# Altium footprint library Cowork_Pcb_Lib.PcbLib: 3 footprints
Each footprint in its own frame and in the unit in brackets; x right, y up, seen from the top. Pads: shape width x height; smd on the part's side, far side on the other; paste and mask are expansions set on the pad; w line width, h text height; cw(c..) or ccw(c..) is an arc to the next point about the centre after c.
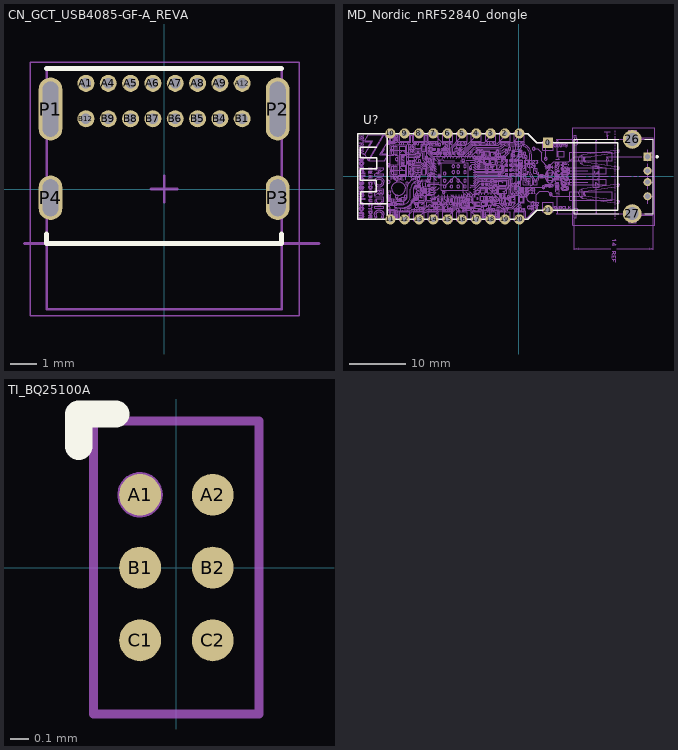
[diagram p0: the footprints below, top view; thin cyan lines are the x and y axes]

## CN_GCT_USB4085-GF-A_REVA [mm] "USB 2.0 Type C Receptacle Dip Type, PCB Top Mount"
height 3.46
pads (20):
  round 0.65 hole 0.4: A1(-2.975,4.025) A4(-2.125,4.025) A5(-1.275,4.025) A6(-0.425,4.025) A7(0.425,4.025) A8(1.275,4.025) A9(2.125,4.025) A12(2.975,4.025) B1(2.975,2.675) B4(2.125,2.675) B5(1.275,2.675) B6(0.425,2.675) B7(-0.425,2.675) B8(-1.275,2.675) B9(-2.125,2.675) B12(-2.975,2.675)
  oval 0.9x2.4 hole 0.6 slot 2.1 at 90 deg: P1(-4.325,3.045) P2(4.325,3.045)
  oval 0.9x1.7 hole 0.6 slot 1.4 at 90 deg: P3(4.325,-0.335) P4(-4.325,-0.335)
Top Overlay:
  lines w0.2: -4.475,-1.725 -4.475,-2.075 4.475,-2.075 4.475,-1.725 ; -4.475,4.585 4.475,4.585
Mechanical 13:
  lines w0.1: -4.475,-4.585 4.475,-4.585 4.475,4.585 -4.475,4.585 -4.475,-4.585
Mechanical 15:
  lines w0.05: -5.1,-4.825 5.15,-4.825 5.15,4.825 -5.1,4.825 -5.1,-4.825
  lines w0.1: -0.5,0 0.5,0 ; 0,-0.5 0,0.5
Mechanical 16:
  lines w0.127: -5.3,-2.075 5.9,-2.075
  text ">PCB Edge" at 5.7,-2.075 h1.57
3D body "USB4085-03-A_revA.STEP": height 3.46, standoff -2.1, extent -4.515,-4.564 4.515,4.606

## MD_Nordic_nRF52840_dongle [mm] "Nordic_nRF52840_dongle"
pads (28):
  rect 1.8x1.8 hole 0.92: 0(5.15,5.95)
  round 1.8 hole 0.9: 1(0.07,7.612) 2(-2.48,7.612) 3(-5.005,7.612) 4(-7.555,7.612) 5(-10.08,7.612) 6(-12.63,7.612) 7(-15.18,7.612) 8(-17.705,7.612) 9(-20.255,7.612) 10(-22.78,7.612) 11(-22.78,-7.612) 12(-20.255,-7.612) 13(-17.705,-7.612) 14(-15.18,-7.612) 15(-12.63,-7.612) 16(-10.08,-7.612) 17(-7.555,-7.612) 18(-5.005,-7.612) 19(-2.48,-7.612) 20(0.07,-7.612) 21(5.145,-5.963)
  rect 1.428x1.428 hole 0.92: 22(22.781,3.483)
  round 1.428 hole 0.92: 23(22.781,0.982) 24(22.781,-1.018) 25(22.781,-3.518)
  round 3.316 hole 2.3: 26(20.071,6.552) 27(20.071,-6.588)
Top Overlay:
  circle w0.3: c24.48,3.483 r0.15
  lines w0.127: 17.701,-6.582 9.791,-6.582 9.791,6.548 17.701,6.548 ; 22.281,-6.582 23.791,-6.582 23.791,6.548 22.281,6.548
  lines w0.254: -25.155,5.188 -28.105,5.188 -28.105,3.337 -28.13,3.313 -25.18,3.313 -25.18,1.363 -25.155,1.338 -28.055,1.338 -28.08,1.363 -28.08,-0.612 -28.105,-0.637 -25.255,-0.637 -25.255,-2.688 -28.031,-2.688 -28.043,-2.7 -28.043,-4.862 -23.349,-4.862 ; -23.349,-7.612 -23.349,7.512 ; -28.505,-7.612 1.595,-7.612 3.195,-6.013 17.533,-6.013 17.533,5.988 3.141,5.988 1.541,7.588 -28.505,7.588 -28.505,-7.612
  text "U?" at -27.58,9.213 h1.52
Mechanical 13:
  drawing of 10111 lines, arcs and shapes, not listed
  text "PCB EDGE" at 7.525,-2.874 h1.27
Mechanical 15:
  lines w0.05: 9.541,-8.638 24.041,-8.638 24.041,8.602 9.541,8.602 9.541,-8.638
3D body "400250.step": height 7.04, standoff 2.47, extent -28.38,-7.583 17.659,7.657
3D body "292303-1--3DModel-STEP-56544.STEP": height 7.87, standoff -3.61, extent 9.737,-8.012 23.737,7.987
3D body "zl201-1_p2-54_l2-54_w2-54_h8-89.stp": height 8.89, standoff -3.05, extent -24.05,-8.882 -21.51,-6.342
3D body "zl201-1_p2-54_l2-54_w2-54_h8-89.stp": height 8.89, standoff -3.05, extent -21.65,-8.86 -19.11,-6.32
3D body "zl201-1_p2-54_l2-54_w2-54_h8-89.stp": height 8.89, standoff -3.05, extent -19.075,-8.857 -16.535,-6.317
3D body "zl201-1_p2-54_l2-54_w2-54_h8-89.stp": height 8.89, standoff -3.05, extent -16.475,-8.857 -13.935,-6.317
3D body "zl201-1_p2-54_l2-54_w2-54_h8-89.stp": height 8.89, standoff -3.05, extent -13.95,-8.857 -11.41,-6.317
3D body "zl201-1_p2-54_l2-54_w2-54_h8-89.stp": height 8.89, standoff -3.05, extent -11.4,-8.882 -8.86,-6.342
3D body "zl201-1_p2-54_l2-54_w2-54_h8-89.stp": height 8.89, standoff -3.05, extent -8.775,-8.857 -6.235,-6.317
3D body "zl201-1_p2-54_l2-54_w2-54_h8-89.stp": height 8.89, standoff -3.05, extent -6.35,-8.857 -3.81,-6.317
3D body "zl201-1_p2-54_l2-54_w2-54_h8-89.stp": height 8.89, standoff -3.05, extent -3.7,-8.832 -1.16,-6.292
3D body "zl201-1_p2-54_l2-54_w2-54_h8-89.stp": height 8.89, standoff -3.05, extent -1.275,-8.857 1.265,-6.317
3D body "zl201-1_p2-54_l2-54_w2-54_h8-89.stp": height 8.89, standoff -3.05, extent 3.925,-7.232 6.465,-4.692
3D body "zl201-1_p2-54_l2-54_w2-54_h8-89.stp": height 8.89, standoff -3.05, extent -24.125,6.343 -21.585,8.883
3D body "zl201-1_p2-54_l2-54_w2-54_h8-89.stp": height 8.89, standoff -3.05, extent -21.575,6.368 -19.035,8.908
3D body "zl201-1_p2-54_l2-54_w2-54_h8-89.stp": height 8.89, standoff -3.05, extent -19,6.368 -16.46,8.908
3D body "zl201-1_p2-54_l2-54_w2-54_h8-89.stp": height 8.89, standoff -3.05, extent -16.45,6.393 -13.91,8.933
3D body "zl201-1_p2-54_l2-54_w2-54_h8-89.stp": height 8.89, standoff -3.05, extent -13.9,6.393 -11.36,8.933
3D body "zl201-1_p2-54_l2-54_w2-54_h8-89.stp": height 8.89, standoff -3.05, extent -11.325,6.393 -8.785,8.933
3D body "zl201-1_p2-54_l2-54_w2-54_h8-89.stp": height 8.89, standoff -3.05, extent -8.825,6.418 -6.285,8.958
3D body "zl201-1_p2-54_l2-54_w2-54_h8-89.stp": height 8.89, standoff -3.05, extent -6.275,6.393 -3.735,8.933
3D body "zl201-1_p2-54_l2-54_w2-54_h8-89.stp": height 8.89, standoff -3.05, extent -3.725,6.393 -1.185,8.933
3D body "zl201-1_p2-54_l2-54_w2-54_h8-89.stp": height 8.89, standoff -3.05, extent -1.15,6.393 1.39,8.933
3D body "zl201-1_p2-54_l2-54_w2-54_h8-89.stp": height 8.89, standoff -3.05, extent 3.875,4.693 6.415,7.233

## TI_BQ25100A [mm]
pads (6):
  round 0.23 smd paste-0.13 mask+0.038: A1(-0.2,0.4) A2(0.2,0.4) B1(-0.2,0) B2(0.2,0) C1(-0.2,-0.4) C2(0.2,-0.4)
Top Overlay:
  lines w0.15: -0.537,0.666 -0.537,0.844 -0.333,0.844
Top Paste:
  circle w0.05: c-0.125,-0.325 r0.025
  circle w0.05: c-0.275,-0.475 r0.025
  circle w0.05: c-0.275,-0.325 r0.025
  circle w0.05: c-0.125,-0.475 r0.025
  circle w0.05: c0.275,-0.475 r0.025
  circle w0.05: c0.125,-0.325 r0.025
  circle w0.05: c0.125,-0.475 r0.025
  circle w0.05: c0.275,-0.325 r0.025
  circle w0.05: c-0.125,0.075 r0.025
  circle w0.05: c-0.275,-0.075 r0.025
  circle w0.05: c-0.275,0.075 r0.025
  circle w0.05: c-0.125,-0.075 r0.025
  circle w0.05: c0.275,-0.075 r0.025
  circle w0.05: c0.125,0.075 r0.025
  circle w0.05: c0.125,-0.075 r0.025
  circle w0.05: c0.275,0.075 r0.025
  circle w0.05: c-0.125,0.475 r0.025
  circle w0.05: c-0.275,0.325 r0.025
  circle w0.05: c-0.275,0.475 r0.025
  circle w0.05: c-0.125,0.325 r0.025
  circle w0.05: c0.275,0.325 r0.025
  circle w0.05: c0.125,0.475 r0.025
  circle w0.05: c0.125,0.325 r0.025
  circle w0.05: c0.275,0.475 r0.025
  rectangle: -0.275,-0.525 -0.125,-0.475
  region: -0.325,-0.325 -0.325,-0.475 -0.275,-0.475 -0.275,-0.325
  region: -0.125,-0.275 -0.275,-0.275 -0.275,-0.325 -0.125,-0.325
  region: -0.075,-0.475 -0.075,-0.325 -0.125,-0.325 -0.125,-0.475
  region: -0.275,-0.325 -0.275,-0.475 -0.125,-0.475 -0.125,-0.325
  region: 0.125,-0.325 0.125,-0.475 0.275,-0.475 0.275,-0.325
  region: 0.325,-0.475 0.325,-0.325 0.275,-0.325 0.275,-0.475
  region: 0.275,-0.275 0.125,-0.275 0.125,-0.325 0.275,-0.325
  region: 0.075,-0.325 0.075,-0.475 0.125,-0.475 0.125,-0.325
  rectangle: 0.125,-0.525 0.275,-0.475
  rectangle: -0.275,-0.125 -0.125,-0.075
  region: -0.325,0.075 -0.325,-0.075 -0.275,-0.075 -0.275,0.075
  region: -0.125,0.125 -0.275,0.125 -0.275,0.075 -0.125,0.075
  region: -0.075,-0.075 -0.075,0.075 -0.125,0.075 -0.125,-0.075
  region: -0.275,0.075 -0.275,-0.075 -0.125,-0.075 -0.125,0.075
  region: 0.125,0.075 0.125,-0.075 0.275,-0.075 0.275,0.075
  region: 0.325,-0.075 0.325,0.075 0.275,0.075 0.275,-0.075
  region: 0.275,0.125 0.125,0.125 0.125,0.075 0.275,0.075
  region: 0.075,0.075 0.075,-0.075 0.125,-0.075 0.125,0.075
  rectangle: 0.125,-0.125 0.275,-0.075
  rectangle: -0.275,0.275 -0.125,0.325
  region: -0.325,0.475 -0.325,0.325 -0.275,0.325 -0.275,0.475
  region: -0.125,0.525 -0.275,0.525 -0.275,0.475 -0.125,0.475
  region: -0.075,0.325 -0.075,0.475 -0.125,0.475 -0.125,0.325
  region: -0.275,0.475 -0.275,0.325 -0.125,0.325 -0.125,0.475
  region: 0.125,0.475 0.125,0.325 0.275,0.325 0.275,0.475
  region: 0.325,0.325 0.325,0.475 0.275,0.475 0.275,0.325
  region: 0.275,0.525 0.125,0.525 0.125,0.475 0.275,0.475
  region: 0.075,0.475 0.075,0.325 0.125,0.325 0.125,0.475
  rectangle: 0.125,0.275 0.275,0.325
Mechanical 5:
  circle w0.05: c-0.2,0.4 r0.1
  lines w0.05: -0.455,-0.805 0.455,-0.805 0.455,0.805 -0.455,0.805 -0.455,-0.805
3D body: height 0.5, standoff 0, extent -0.455,-0.805 0.455,0.806
3D body: height 0.51, standoff 0.4, extent -0.299,0.301 -0.101,0.499